# Altium footprint library SC-70-5.PcbLib: 1 footprints
Each footprint in its own frame and in the unit in brackets; x right, y up, seen from the top. Pads: shape width x height; smd on the part's side, far side on the other; paste and mask are expansions set on the pad; w line width, h text height; cw(c..) or ccw(c..) is an arc to the next point about the centre after c.
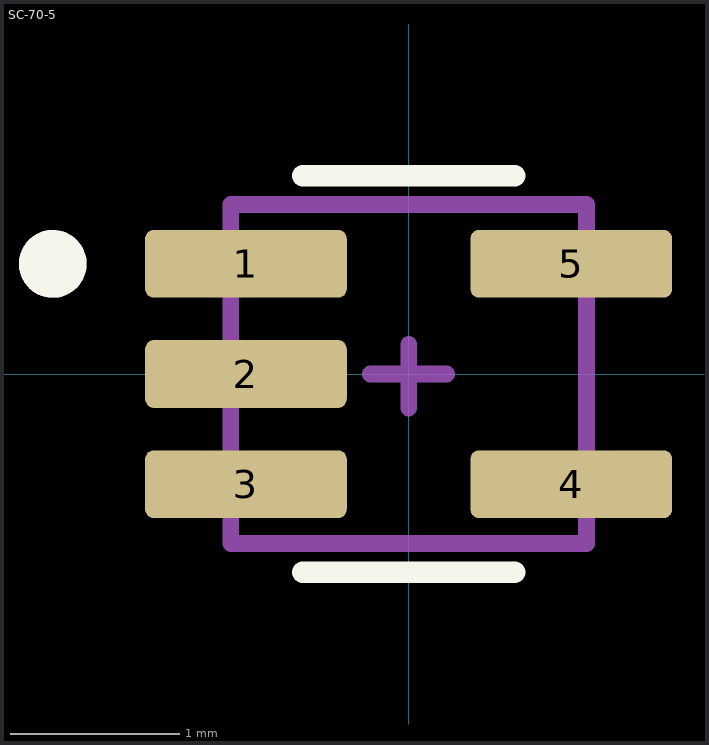
[diagram p0: the footprint, top view; thin cyan lines are the x and y axes]

## SC-70-5 [mm]
pads (5):
  rrect25% 1.19x0.4 smd: 1(-0.96,0.65) 2(-0.96,0) 3(-0.96,-0.65) 4(0.96,-0.65) 5(0.96,0.65)
Top Overlay:
  circle w0.2: c-2.1,0.65 r0.1
  lines w0.127: -0.625,-1.17 0.625,-1.17 ; -0.625,1.17 0.625,1.17
Mechanical 13:
  circle w0.2: c-2.1,0.65 r0.1
  lines w0.099: -1.05,-1 -1.05,1 1.05,1 1.05,-1 -1.05,-1
Mechanical 15:
  lines w0.099: -0.225,0 0,0 ; 0,-0.2 0,0 ; 0.225,0 0,0 ; 0,0 0,0.175 0,0
3D body "SC-70-5.STEP": height 1.01, standoff -0.09, extent -1.05,-1 1.05,1